# EAGLE library part 62501422121 (library Wuerth_Elektronik_eiCan_Box_Header_&_IDC_Connectors_v1.2)
WR-BHD 2.00mm Male Angled Box Header With Lever, 14 pins
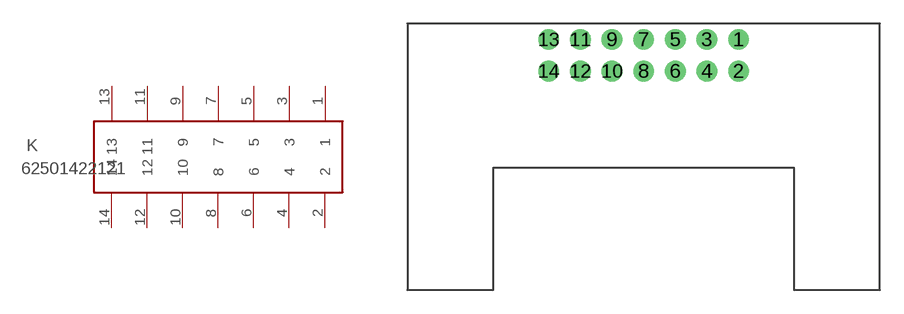
[diagram p30: symbol with the pads of 62501422121; footprint 62501422121]

Designator prefix K

## 62501422121  [62501422121]
1  1  pas
2  2  pas
3  3  pas
4  4  pas
5  5  pas
6  6  pas
7  7  pas
8  8  pas
9  9  pas
10  10  pas
11  11  pas
12  12  pas
13  13  pas
14  14  pas

## Footprint 62501422121 (pad centres in mm)
WR-BHD 2.00mm Male Angled Box Header With Lever, 14 pins
drill 0.8 round: 1 6,1; 2 6,-1; 3 4,1; 4 4,-1; 5 2,1; 6 2,-1; 7 0,1; 8 0,-1; 9 -2,1; 10 -2,-1; 11 -4,1; 12 -4,-1; 13 -6,1; 14 -6,-1